# Altium footprint library EISI.PcbLib: 695 footprints (part 15 of 44)
Each footprint in its own frame and in the unit in brackets; x right, y up, seen from the top. Pads: shape width x height; smd on the part's side, far side on the other; paste and mask are expansions set on the pad; w line width, h text height; cw(c..) or ccw(c..) is an arc to the next point about the centre after c.
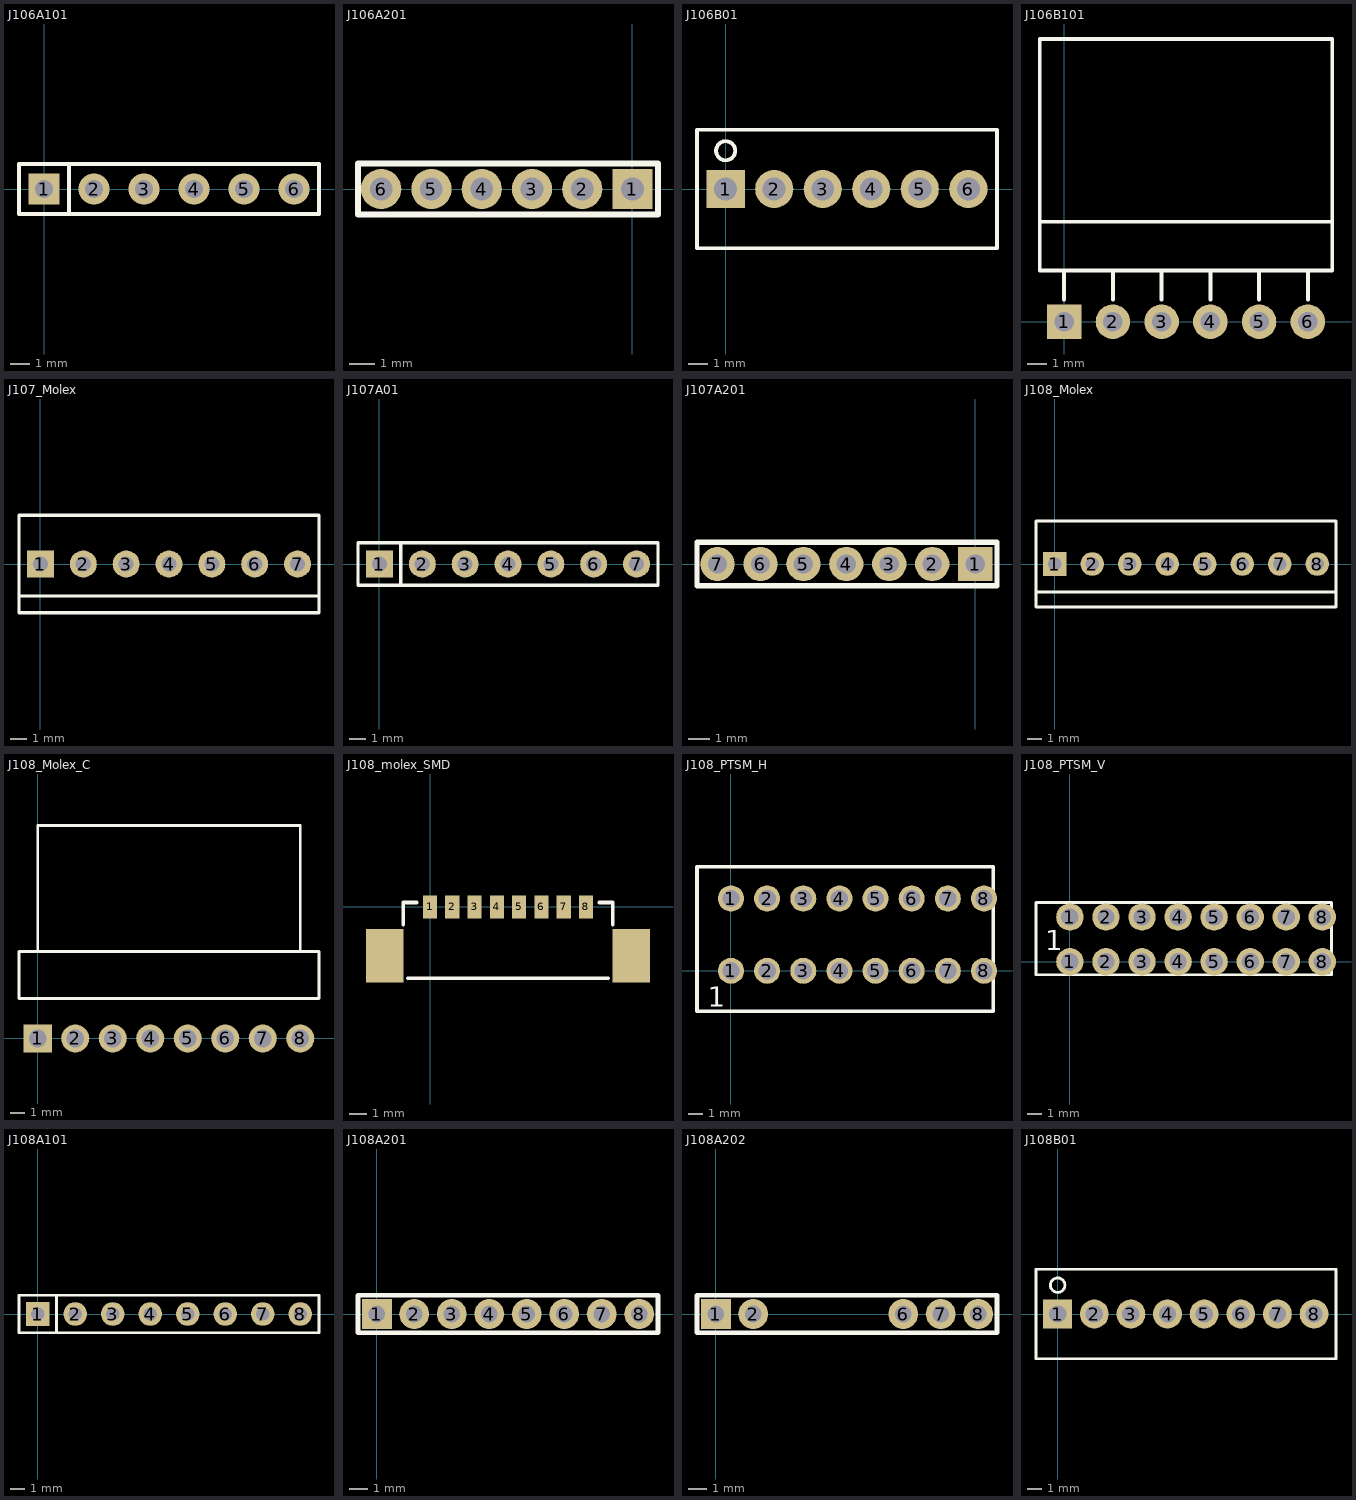
[diagram p14: the footprints below, top view; thin cyan lines are the x and y axes]

## J106A101 [mm]
pads (6):
  rect 1.6x1.6 hole 0.9: 1(0,0)
  round 1.6 hole 0.9: 2(2.54,0) 3(5.08,0) 4(7.62,0) 5(10.16,0) 6(12.7,0)
TopOverlay:
  lines w0.2: 1.27,-1.27 1.27,1.27 ; -1.27,-1.27 13.97,-1.27 13.97,1.27 -1.27,1.27 -1.27,-1.27

## J106A201 [mm]
pads (6):
  rect 1.6x1.6 hole 0.9: 1(0,0)
  round 1.6 hole 0.9: 2(-2,0) 3(-4,0) 4(-6,0) 5(-8,0) 6(-10,0)
TopOverlay:
  lines w0.254: -10.922,-1.016 1.016,-1.016 1.016,1.016 -10.922,1.016 -10.922,-1.016

## J106B01 [mm] "Micro-Barette serre-fils pas 2.54mm"
height 8.5
pads (6):
  rect 2x2 hole 1.2: 1(0,0)
  round 2 hole 1.2: 2(2.54,0) 3(5.08,0) 4(7.62,0) 5(10.16,0) 6(12.7,0)
TopOverlay:
  circle w0.2: c0,2 r0.5
  lines w0.2: -1.5,-3.1 14.2,-3.1 14.2,3.1 -1.5,3.1 -1.5,-3.1

## J106B101 [mm]
pads (6):
  rect 1.8x1.8 hole 1.016 unplated: 1(0,0)
  round 1.8 hole 1.016 unplated: 2(2.54,0) 3(5.08,0) 4(7.62,0) 5(10.16,0) 6(12.7,0)
TopOverlay:
  lines w0.2: -1.27,5.207 13.97,5.207 ; 0,1.143 0,2.667 ; 2.54,1.143 2.54,2.667 ; 5.08,1.143 5.08,2.667 ; 7.62,1.143 7.62,2.667 ; 10.16,1.143 10.16,2.667 ; 12.7,1.143 12.7,2.667 ; -1.27,2.667 -1.27,14.732 13.97,14.732 13.97,2.667 -1.27,2.667

## J107_Molex [mm] "Connecteur Molex droit 7 pôles"
height 11.7
pads (7):
  rect 1.6x1.6 hole 0.9: 1(0,0)
  round 1.6 hole 0.9: 2(2.54,0) 3(5.08,0) 4(7.62,0) 5(10.16,0) 6(12.7,0) 7(15.24,0)
TopOverlay:
  lines w0.2: -1.27,-1.9 16.51,-1.9 ; -1.27,-2.9 16.51,-2.9 16.51,2.9 -1.27,2.9 -1.27,0 -1.27,-2.9

## J107A01 [mm]
pads (7):
  rect 1.6x1.6 hole 0.9: 1(0,0)
  round 1.6 hole 0.9: 2(2.54,0) 3(5.08,0) 4(7.62,0) 5(10.16,0) 6(12.7,0) 7(15.24,0)
TopOverlay:
  lines w0.2: 1.27,-1.27 1.27,1.27 ; -1.27,-1.27 16.51,-1.27 16.51,1.27 -1.27,1.27 -1.27,-1.27

## J107A201 [mm]
pads (7):
  rect 1.6x1.6 hole 0.9: 1(0,0)
  round 1.6 hole 0.9: 2(-2,0) 3(-4,0) 4(-6,0) 5(-8,0) 6(-10,0) 7(-12,0)
TopOverlay:
  lines w0.254: -12.954,-1.016 -12.954,1.016 1.016,1.016 1.016,-1.016 -12.954,-1.016

## J108_Molex [mm] "Connecteur Molex droit 8 pôles"
height 11.7
pads (8):
  rect 1.6x1.6 hole 0.9: 1(0,0)
  round 1.6 hole 0.9: 2(2.54,0) 3(5.08,0) 4(7.62,0) 5(10.16,0) 6(12.7,0) 7(15.24,0) 8(17.78,0)
TopOverlay:
  lines w0.2: -1.27,-1.9 19.05,-1.9 ; -1.27,-2.9 19.05,-2.9 19.05,2.9 -1.27,2.9 -1.27,0 -1.27,-2.9

## J108_Molex_C [mm]
pads (8):
  rect 1.9x1.9 hole 1.2: 1(0,0)
  round 1.9 hole 1.2: 2(2.54,0) 3(5.08,0) 4(7.62,0) 5(10.16,0) 6(12.7,0) 7(15.24,0) 8(17.78,0)
TopOverlay:
  lines w0.2: 0,5.9 0,14.42 17.78,14.42 17.78,5.9 ; -1.27,2.72 19.05,2.72 19.05,5.9 -1.27,5.9 -1.27,2.72

## J108_molex_SMD [mm] "CONN HEADER 8POS 1.25MM VERT SMD"
height 4.7
pads (10):
  rect 0.8x1.3 smd: 1(0,0) 2(1.25,0) 3(2.5,0) 4(3.75,0) 5(5,0) 6(6.25,0) 7(7.5,0) 8(8.75,0)
  rect 2.1x3 smd: ""(-2.55,-2.75) ""(11.3,-2.75)
TopOverlay:
  lines w0.2: -1.5,-1 -1.5,0.25 -0.75,0.25 ; -1.25,-4 10,-4 ; 9.5,0.25 10.25,0.25 10.25,-1

## J108_PTSM_H [mm] "PHOENIX CONTACT PTSM 0,5/ 8-2,5-H THR R32"
height 5
pads (16):
  round 1.8 hole 1.2: 1(0,0) 1(0,5) 2(2.5,0) 2(2.5,5) 3(5,0) 3(5,5) 4(7.5,0) 4(7.5,5) 5(10,0) 5(10,5) 6(12.5,0) 6(12.5,5) 7(15,0) 7(15,5) 8(17.5,0) 8(17.5,5)
TopOverlay:
  lines w0.25: -2.35,-2.8 -2.35,7.2 18.15,7.2 18.15,-2.8 -2.35,-2.8
  text "1" at -1.6,-2.5 h1.4

## J108_PTSM_V [mm] "PHOENIX CONTACT PTSM 0,5/ 8-2,5-V THR R44"
height 10
pads (16):
  round 1.9 hole 1.2: 1(0,0) 1(0,3.1) 2(2.5,0) 2(2.5,3.1) 3(5,0) 3(5,3.1) 4(7.5,0) 4(7.5,3.1) 5(10,0) 5(10,3.1) 6(12.5,0) 6(12.5,3.1) 7(15,0) 7(15,3.1) 8(17.5,0) 8(17.5,3.1)
TopOverlay:
  lines w0.2: -2.35,-0.9 -2.35,4.1 18.15,4.1 18.15,-0.9 -2.35,-0.9
  text "1" at -1.7,0.8 h1.4

## J108A101 [mm]
pads (8):
  rect 1.6x1.6 hole 0.9: 1(0,0)
  round 1.6 hole 0.9: 2(2.54,0) 3(5.08,0) 4(7.62,0) 5(10.16,0) 6(12.7,0) 7(15.24,0) 8(17.78,0)
TopOverlay:
  lines w0.2: 1.27,-1.27 1.27,1.27 ; -1.27,-1.27 19.05,-1.27 19.05,1.27 -1.27,1.27 -1.27,-1.27

## J108A201 [mm]
pads (8):
  rect 1.6x1.6 hole 0.9: 1(0,0)
  round 1.6 hole 0.9: 2(2,0) 3(4,0) 4(6,0) 5(8,0) 6(10,0) 7(12,0) 8(14,0)
TopOverlay:
  lines w0.254: -1,-1 15,-1 15,1 -1,1 -1,-1

## J108A202 [mm]
pads (5):
  rect 1.6x1.6 hole 0.9: 1(0,0)
  round 1.6 hole 0.9: 2(2,0) 6(10,0) 7(12,0) 8(14,0)
TopOverlay:
  lines w0.254: -1,-1 15,-1 15,1 -1,1 -1,-1

## J108B01 [mm] "Micro-Barette serre-fils pas 2.54mm"
height 8.5
pads (8):
  rect 2x2 hole 1.2: 1(0,0)
  round 2 hole 1.2: 2(2.54,0) 3(5.08,0) 4(7.62,0) 5(10.16,0) 6(12.7,0) 7(15.24,0) 8(17.78,0)
TopOverlay:
  circle w0.2: c0,2 r0.5
  lines w0.2: -1.5,-3.1 19.3,-3.1 19.3,3.1 -1.5,3.1 -1.5,-3.1